# Altium footprint library dimploma.PcbLib: 50 footprints (part 1 of 4)
Each footprint in its own frame and in the unit in brackets; x right, y up, seen from the top. Pads: shape width x height; smd on the part's side, far side on the other; paste and mask are expansions set on the pad; w line width, h text height; cw(c..) or ccw(c..) is an arc to the next point about the centre after c.
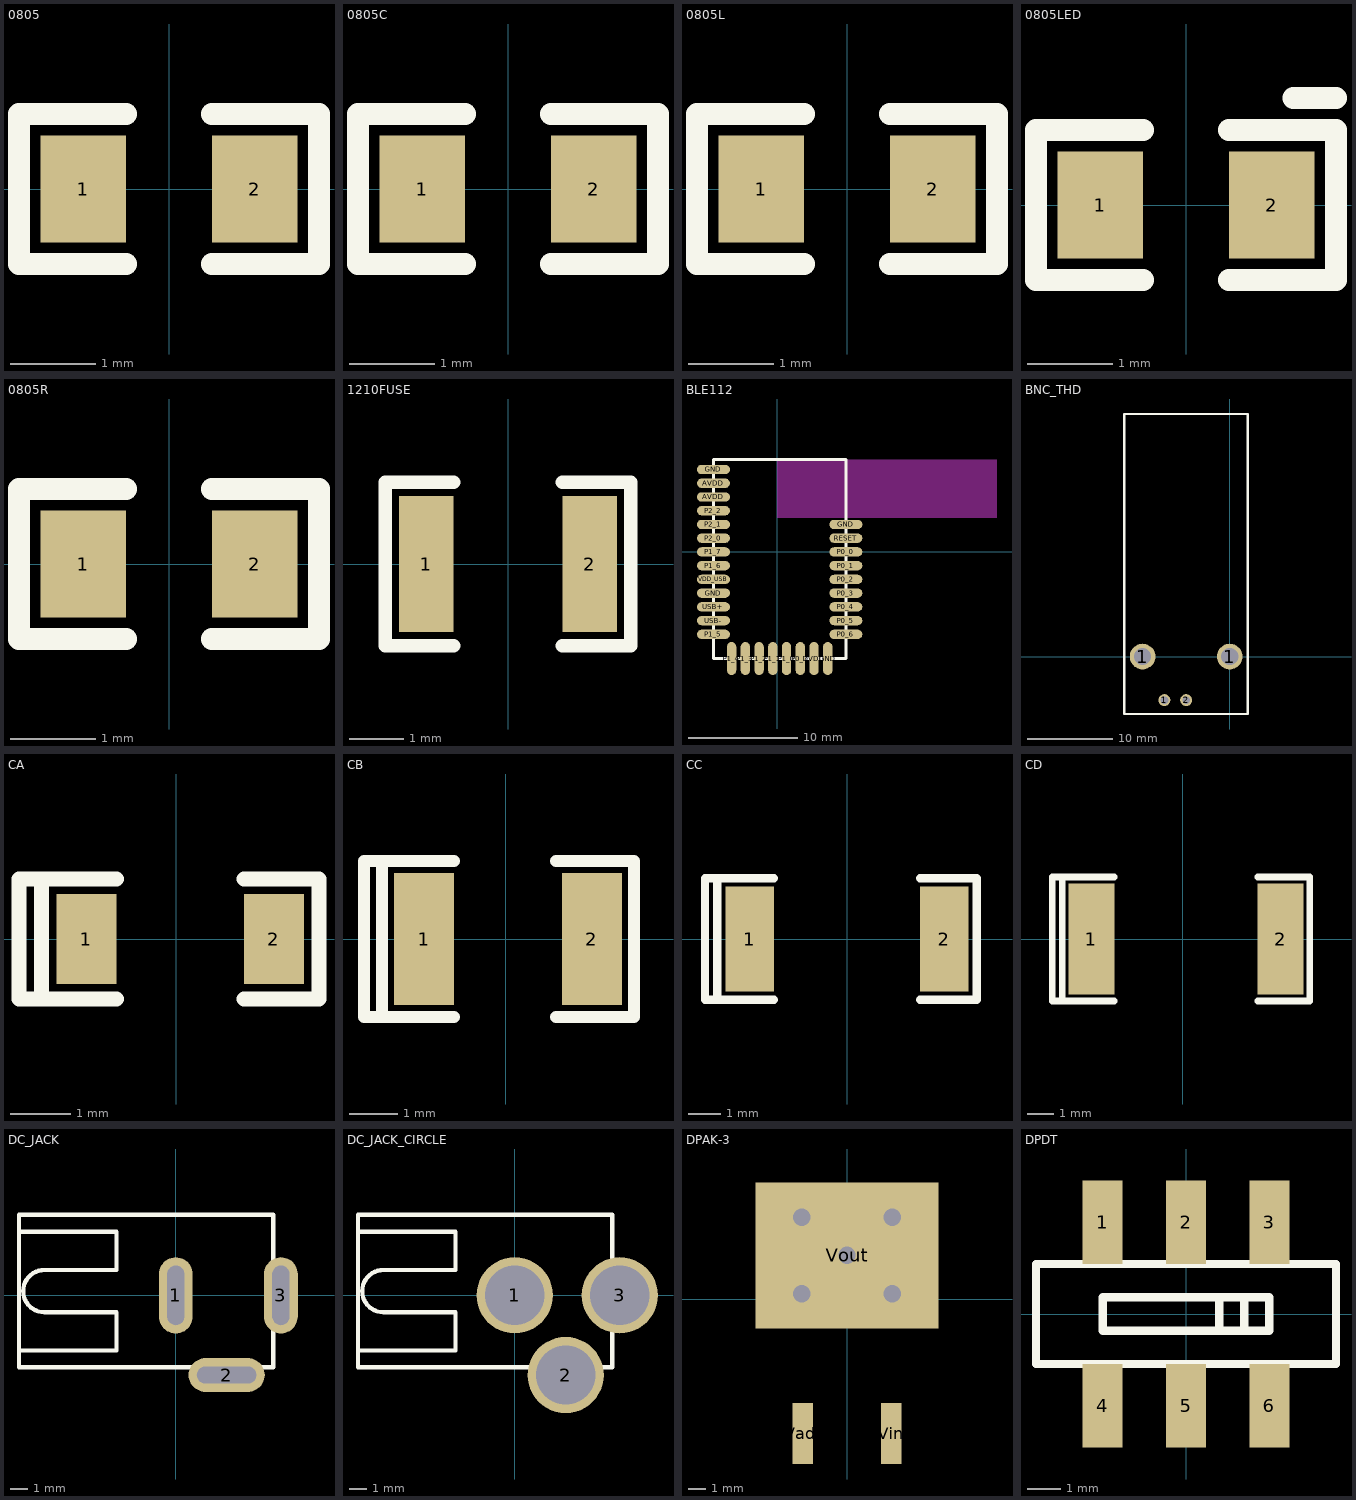
[diagram p0: the footprints below, top view; thin cyan lines are the x and y axes]

## 0805 [mm]
pads (2):
  rect 1x1.25 smd: 1(-1,0) 2(1,0)
Top Overlay:
  lines w0.254: -0.5,-0.875 -1.75,-0.875 -1.75,0.875 -0.5,0.875 ; 0.5,-0.875 1.75,-0.875 1.75,0.875 0.5,0.875

## 0805C [mm]
pads (2):
  rect 1x1.25 smd: 1(-1,0) 2(1,0)
Top Overlay:
  lines w0.254: -0.5,-0.875 -1.75,-0.875 -1.75,0.875 -0.5,0.875 ; 0.5,-0.875 1.75,-0.875 1.75,0.875 0.5,0.875
3D body "C0805.STEP": height 0.79, standoff 0, extent -1.244,-0.622 1.264,0.622

## 0805L [mm]
pads (2):
  rect 1x1.25 smd: 1(-1,0) 2(1,0)
Top Overlay:
  lines w0.254: -0.5,-0.875 -1.75,-0.875 -1.75,0.875 -0.5,0.875 ; 0.5,-0.875 1.75,-0.875 1.75,0.875 0.5,0.875
3D body "L0805.STEP": height 0.95, standoff 0, extent -0.99,-0.59 1.01,0.61

## 0805LED [mm]
pads (2):
  rect 1x1.25 smd: 1(-1,0) 2(1,0)
Top Overlay:
  lines w0.254: -0.5,-0.875 -1.75,-0.875 -1.75,0.875 -0.5,0.875 ; 0.5,-0.875 1.75,-0.875 1.75,0.875 0.5,0.875 ; 1.25,1.25 1.75,1.25

## 0805R [mm]
pads (2):
  rect 1x1.25 smd: 1(-1,0) 2(1,0)
Top Overlay:
  lines w0.254: -0.5,-0.875 -1.75,-0.875 -1.75,0.875 -0.5,0.875 ; 0.5,-0.875 1.75,-0.875 1.75,0.875 0.5,0.875
3D body "R0805.STEP": height 0.79, standoff 0, extent -1.234,-0.622 1.274,0.622

## 1210FUSE [mm]
pads (2):
  rect 1x2.5 smd: 1(-1.5,0) 2(1.5,0)
Top Overlay:
  lines w0.254: -1,-1.5 -2.25,-1.5 -2.25,1.5 -1,1.5 ; 1,-1.5 2.25,-1.5 2.25,1.5 1,1.5

## BLE112 [mm] "BLE112 Bluetooth Low Energy module"
pads (30):
  oval 3x0.85 smd: AVDD(-5.8,5) AVDD(-5.8,6.25) GND(-5.8,-3.75) GND(-5.8,7.5) GND(6.25,2.5) P0_0(6.25,0) P0_1(6.25,-1.25) P0_2(6.25,-2.5) P0_3(6.25,-3.75) P0_4(6.25,-5) P0_5(6.25,-6.25) P0_6(6.25,-7.5) P1_5(-5.8,-7.5) P1_6(-5.8,-1.25) P1_7(-5.8,0) P2_0(-5.8,1.25) P2_1(-5.8,2.5) P2_2(-5.8,3.75) RESET(6.25,1.25) USB+(-5.8,-5) USB-(-5.8,-6.25) VDD_USB(-5.8,-2.5)
  oval 0.85x3 smd: DVDD(3.35,-9.7) GND(4.6,-9.7) P0_7(2.1,-9.7) P1_0(0.85,-9.7) P1_1(-0.4,-9.7) P1_2(-1.65,-9.7) P1_3(-2.9,-9.7) P1_4(-4.15,-9.7)
Top Overlay:
  lines w0.254: -5.8,-9.7 6.25,-9.7 6.25,8.4 -5.8,8.4 -5.8,-9.7
Keep-Out Layer:
  rectangle: 0,3.1 20,8.4
3D body "User Library-BLE112.step": height 2.3, standoff 0, extent -5.825,-9.65 6.225,8.45

## BNC_THD [mm]
pads (4):
  round 3 hole 2: 1(-10.16,0) 1(0,0)
  round 1.4 hole 0.9: 1(-7.62,-5.08) 2(-5.08,-5.08)
Top Overlay:
  lines w0.254: -12.3,-6.7 -12.3,28.3 2.1,28.3 2.1,-6.7 -12.3,-6.7
3D body "User Library-bnc-1.step": height 15.63, standoff -3.97, extent -12.3,-6.65 2.1,28.25

## CA [mm] "Capacitor A footprint"
pads (2):
  rect 1x1.5 smd: 1(-1.5,0) 2(1.625,0)
Top Overlay:
  lines w0.254: -2.25,-1 -2.25,1 ; -1,-1 -2.625,-1 -2.625,1 -1,1 ; 1.125,-1 2.375,-1 2.375,1 1.125,1
3D body "A_case.stp": height 1.7, standoff -0.01, extent -1.6,-0.84 1.8,0.84

## CB [mm] "Capacitor B footprint"
pads (2):
  rect 1.25x2.75 smd: 1(-1.7,0) 2(1.8,0)
Top Overlay:
  lines w0.254: -2.575,-1.625 -2.575,1.625 ; -1.075,-1.625 -2.95,-1.625 -2.95,1.625 -1.075,1.625 ; 1.05,-1.625 2.675,-1.625 2.675,1.625 1.05,1.625
3D body "B_case.stp": height 1.96, standoff -0.07, extent -1.8,-1.465 1.9,1.465

## CC [mm] "Capacitor C footprint"
pads (2):
  rect 1.5x3.25 smd: 1(-3,0) 2(3,0)
Top Overlay:
  lines w0.254: -4,-1.875 -4,1.875 ; -2.25,-1.875 -4.375,-1.875 -4.375,1.875 -2.25,1.875 ; 2.25,-1.875 4,-1.875 4,1.875 2.25,1.875
3D body "C_case .stp": height 2.72, standoff 0.02, extent -3.05,-1.675 3.05,1.675

## CD [mm] "Capacitor D footprint"
pads (2):
  rect 1.75x4.25 smd: 1(-3.5,0) 2(3.75,0)
Top Overlay:
  lines w0.254: -4.625,-2.375 -4.625,2.375 ; -2.625,-2.375 -5,-2.375 -5,2.375 -2.625,2.375 ; 2.875,-2.375 4.875,-2.375 4.875,2.375 2.875,2.375
3D body "D_case.stp": height 3.02, standoff 0.02, extent -3.495,-2.225 3.904,2.225

## DC_JACK [mm] "DC Power connector"
pads (3):
  oval 2x4.5 hole 1 slot 3.5 at 90 deg: 1(0,0) 3(6.2,0)
  oval 4.5x2 hole 1 slot 3.5 at 0 deg: 2(3,-4.7)
Top Overlay:
  lines w0.254: -9.25,-3.25 -3.5,-3.25 -3.5,-1 -7.75,-1 cw(c-7.75,0.25) -9,0.25 cw(c-7.75,0.25) -7.75,1.5 -3.5,1.5 -3.5,3.75 -9.25,3.75 ; -9.25,-4.25 5.75,-4.25 5.75,4.75 -9.25,4.75 -9.25,-4.25
3D body "pj-002ah.stp": height 11, standoff -3.5, extent -7.6,-4.8 6.8,4.6

## DC_JACK_CIRCLE [mm] "DC Power connector"
pads (3):
  round 4.5 hole 3.5: 1(0,0) 2(3,-4.7) 3(6.2,0)
Top Overlay:
  lines w0.254: -9.25,-3.25 -3.5,-3.25 -3.5,-1 -7.75,-1 cw(c-7.75,0.25) -9,0.25 cw(c-7.75,0.25) -7.75,1.5 -3.5,1.5 -3.5,3.75 -9.25,3.75 ; -9.25,-4.25 -9.25,4.75 5.75,4.75 5.75,-4.25 -9.25,-4.25
3D body "pj-002ah.stp": height 11, standoff -3.5, extent -7.6,-4.8 6.8,4.6

## DPAK-3 [mm]
pads (3):
  rect 1.2x3.504 smd: Vadj(-2.54,-7.713) Vin(2.54,-7.713)
  rect 10.49x8.38 smd: Vout(0,2.5)
via 0,2.5 diameter 1.5 hole 1
via 2.6,4.7 diameter 1.5 hole 1
via -2.6,0.3 diameter 1.5 hole 1
via 2.6,0.3 diameter 1.5 hole 1
via -2.6,4.7 diameter 1.5 hole 1

## DPDT [mm]
pads (6):
  rect 1.2x2.5 smd: 1(-2.5,2.75) 2(0,2.75) 3(2.5,2.75) 4(-2.5,-2.75) 5(0,-2.75) 6(2.5,-2.75)
Top Overlay:
  lines w0.254: 1,0.5 1,-0.5 1.75,-0.5 1.75,0.5 ; -4.5,-1.5 4.5,-1.5 4.5,1.5 -4.5,1.5 -4.5,-1.5 ; -2.5,-0.5 2.5,-0.5 2.5,0.5 -2.5,0.5 -2.5,-0.5